# EAGLE library part SM2200 (library PLC)
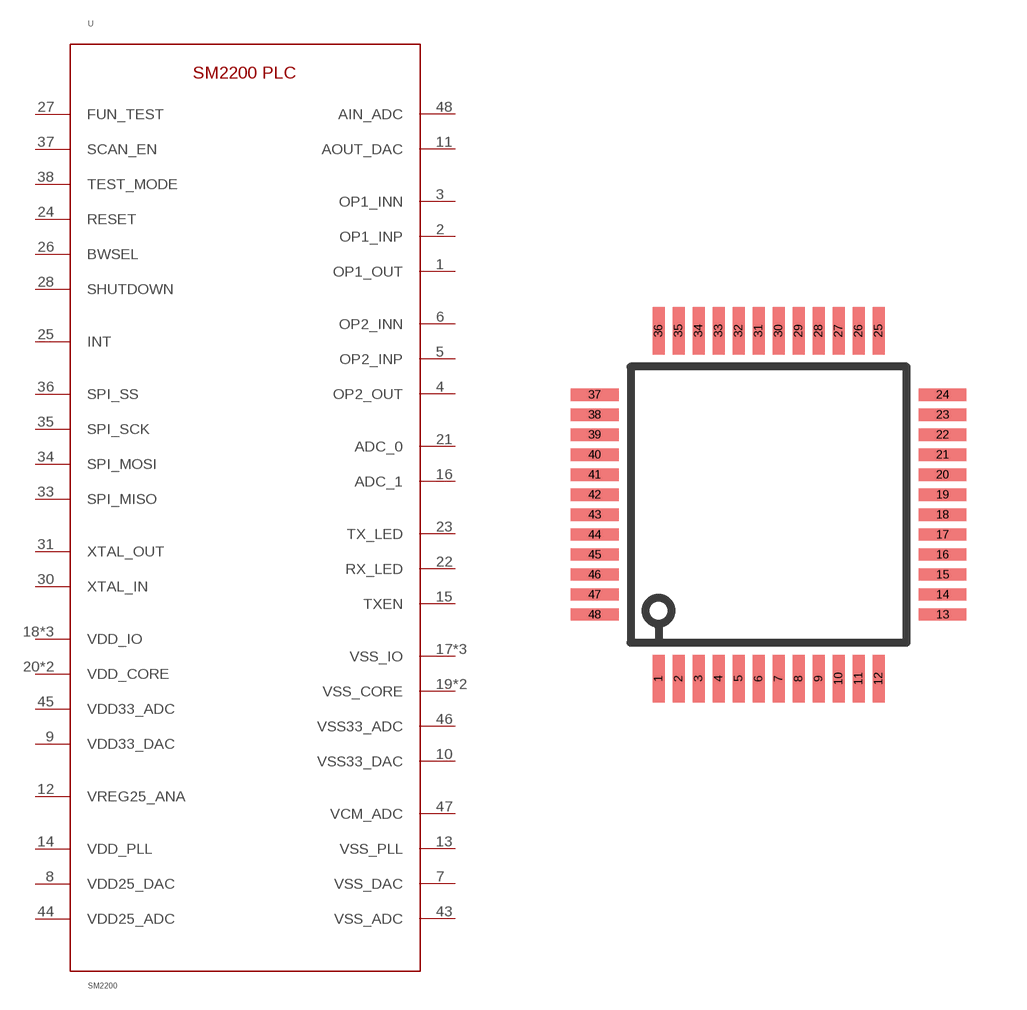
[diagram p0: symbol with the pads of LQFP48(0.5PITCH); footprint LQFP48(0.5PITCH)]

Designator prefix U

## SM2200  [LQFP48(0.5PITCH)]
1  OP1_OUT
2  OP1_INP
3  OP1_INN
4  OP2_OUT
5  OP2_INP
6  OP2_INN
7  VSS_DAC  pwr
8  VDD25_DAC  pwr
9  VDD33_DAC  pwr
10  VSS33_DAC  pwr
11  AOUT_DAC
12  VREG25_ANA  pwr
13  VSS_PLL  pwr
14  VDD_PLL  pwr
15  TXEN
16  ADC_1
17  VSS_IO  pwr
18  VDD_IO  pwr
19  VSS_CORE  pwr
20  VDD_CORE  pwr
21  ADC_0
22  RX_LED
23  TX_LED
24  RESET
25  INT
26  BWSEL
27  FUN_TEST
28  SHUTDOWN
29  VDD_IO  pwr
30  XTAL_IN
31  XTAL_OUT
32  VSS_IO  pwr
33  SPI_MISO
34  SPI_MOSI
35  SPI_SCK
36  SPI_SS
37  SCAN_EN
38  TEST_MODE
39  VSS_IO  pwr
40  VDD_IO  pwr
41  VSS_CORE  pwr
42  VDD_CORE  pwr
43  VSS_ADC  pwr
44  VDD25_ADC  pwr
45  VDD33_ADC  pwr
46  VSS33_ADC  pwr
47  VCM_ADC  pwr
48  AIN_ADC

## Footprint LQFP48(0.5PITCH) (pad centres in mm)
smd 0.3 x 1.2: 1 0,0; 2 0.5,0; 3 1,0; 4 1.5,0; 5 2,0; 6 2.5,0; 7 3,0; 8 3.5,0; 9 4,0; 10 4.5,0; 11 5,0; 12 5.5,0; 25 5.5,8.7; 26 5,8.7; 27 4.5,8.7; 28 4,8.7; 29 3.5,8.7; 30 3,8.7; 31 2.5,8.7; 32 2,8.7; 33 1.5,8.7; 34 1,8.7; 35 0.5,8.7; 36 0,8.7
smd 1.2 x 0.3: 13 7.1,1.6; 14 7.1,2.1; 15 7.1,2.6; 16 7.1,3.1; 17 7.1,3.6; 18 7.1,4.1; 19 7.1,4.6; 20 7.1,5.1; 21 7.1,5.6; 22 7.1,6.1; 23 7.1,6.6; 24 7.1,7.1; 37 -1.6,7.1; 38 -1.6,6.6; 39 -1.6,6.1; 40 -1.6,5.6; 41 -1.6,5.1; 42 -1.6,4.6; 43 -1.6,4.1; 44 -1.6,3.6; 45 -1.6,3.1; 46 -1.6,2.6; 47 -1.6,2.1; 48 -1.6,1.6